# Altium schematic symbol library OPTO,Darlington,5kV,Thru,PS2562-1.SchLib: 1 symbol
Pins are listed as number, name and electrical type; pins without a type are passive.

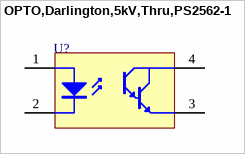
[diagram p0: symbol OPTO,Darlington,5kV,Thru,PS2562-1]

## OPTO,Darlington,5kV,Thru,PS2562-1
designator U?
pins: 1 A "Anode", 2 K "Cathode", 3 E "Emitter", 4 C "Collector"